# Altium footprint library inductor.PcbLib: 2 footprints
Each footprint in its own frame and in the unit in brackets; x right, y up, seen from the top. Pads: shape width x height; smd on the part's side, far side on the other; paste and mask are expansions set on the pad; w line width, h text height; cw(c..) or ccw(c..) is an arc to the next point about the centre after c.
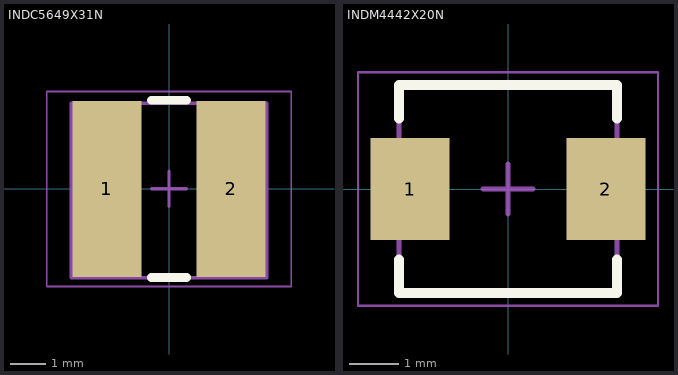
[diagram p0: the footprints below, top view; thin cyan lines are the x and y axes]

## INDC5649X31N [mm] "Chip Inductor, 2-Leads, Body 5.60x4.90mm, IPC Medium Density"
height 3.1
pads (2):
  rect 1.98x5.04 smd: 1(-1.778,0) 2(1.778,0)
Top Overlay:
  lines w0.254: -0.508,-2.54 0.508,-2.54 ; -0.508,2.54 0.508,2.54
Mechanical 13:
  lines w0.1: -2.8,-2.54 2.8,-2.54 2.8,2.45 -2.8,2.45 -2.8,-2.54
Mechanical 15:
  lines w0.05: -3.5,-2.8 3.5,-2.8 3.5,2.794 -3.5,2.794 -3.5,-2.8
  lines w0.1: -0.5,0 0.5,0 ; 0,-0.5 0,0.5
3D body: height 3.1, standoff 0, extent 1.05,-2.45 2.54,2.45
3D body: height 3.1, standoff 0, extent -2.379,-2.45 -0.889,2.45
3D body: height 3.1, standoff 0, extent -1.31,-2.45 1.31,2.45

## INDM4442X20N [mm] "Molded Inductor, 2-Leads, Body 4.40x4.20mm, IPC Medium Density"
height 2
pads (2):
  rect 1.6x2.05 smd: 1(-1.975,0) 2(1.975,0)
Top Overlay:
  lines w0.2: -2.2,-1.425 -2.2,-2.1 2.2,-2.1 2.2,-1.425 ; -2.2,1.425 -2.2,2.1 2.2,2.1 2.2,1.425
Mechanical 13:
  lines w0.1: -2.2,-2.1 2.2,-2.1 2.2,2.1 -2.2,2.1 -2.2,-2.1
Mechanical 15:
  lines w0.05: -3.025,-2.35 3.025,-2.35 3.025,2.35 -3.025,2.35 -3.025,-2.35
  lines w0.1: -0.5,0 0.5,0 ; 0,-0.5 0,0.5
3D body "INDM4442X20N.step": height 2, standoff 0, extent -2.42,-2.1 2.42,2.1